# Altium schematic symbol library 24LC128.SchLib: 1 symbol
Pins are listed as number, name and electrical type; pins without a type are passive.

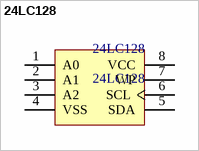
[diagram p0: symbol 24LC128]

## 24LC128
designator 24LC128
footprint 24LC128 (208mil尺寸)
pins: 1 A0, 2 A1, 3 A2, 4 VSS, 5 SDA, 6 SCL, 7 WP, 8 VCC